# Altium footprint library controller_V1.1.PcbLib: 56 footprints (part 3 of 4)
Each footprint in its own frame and in the unit in brackets; x right, y up, seen from the top. Pads: shape width x height; smd on the part's side, far side on the other; paste and mask are expansions set on the pad; w line width, h text height; cw(c..) or ccw(c..) is an arc to the next point about the centre after c.
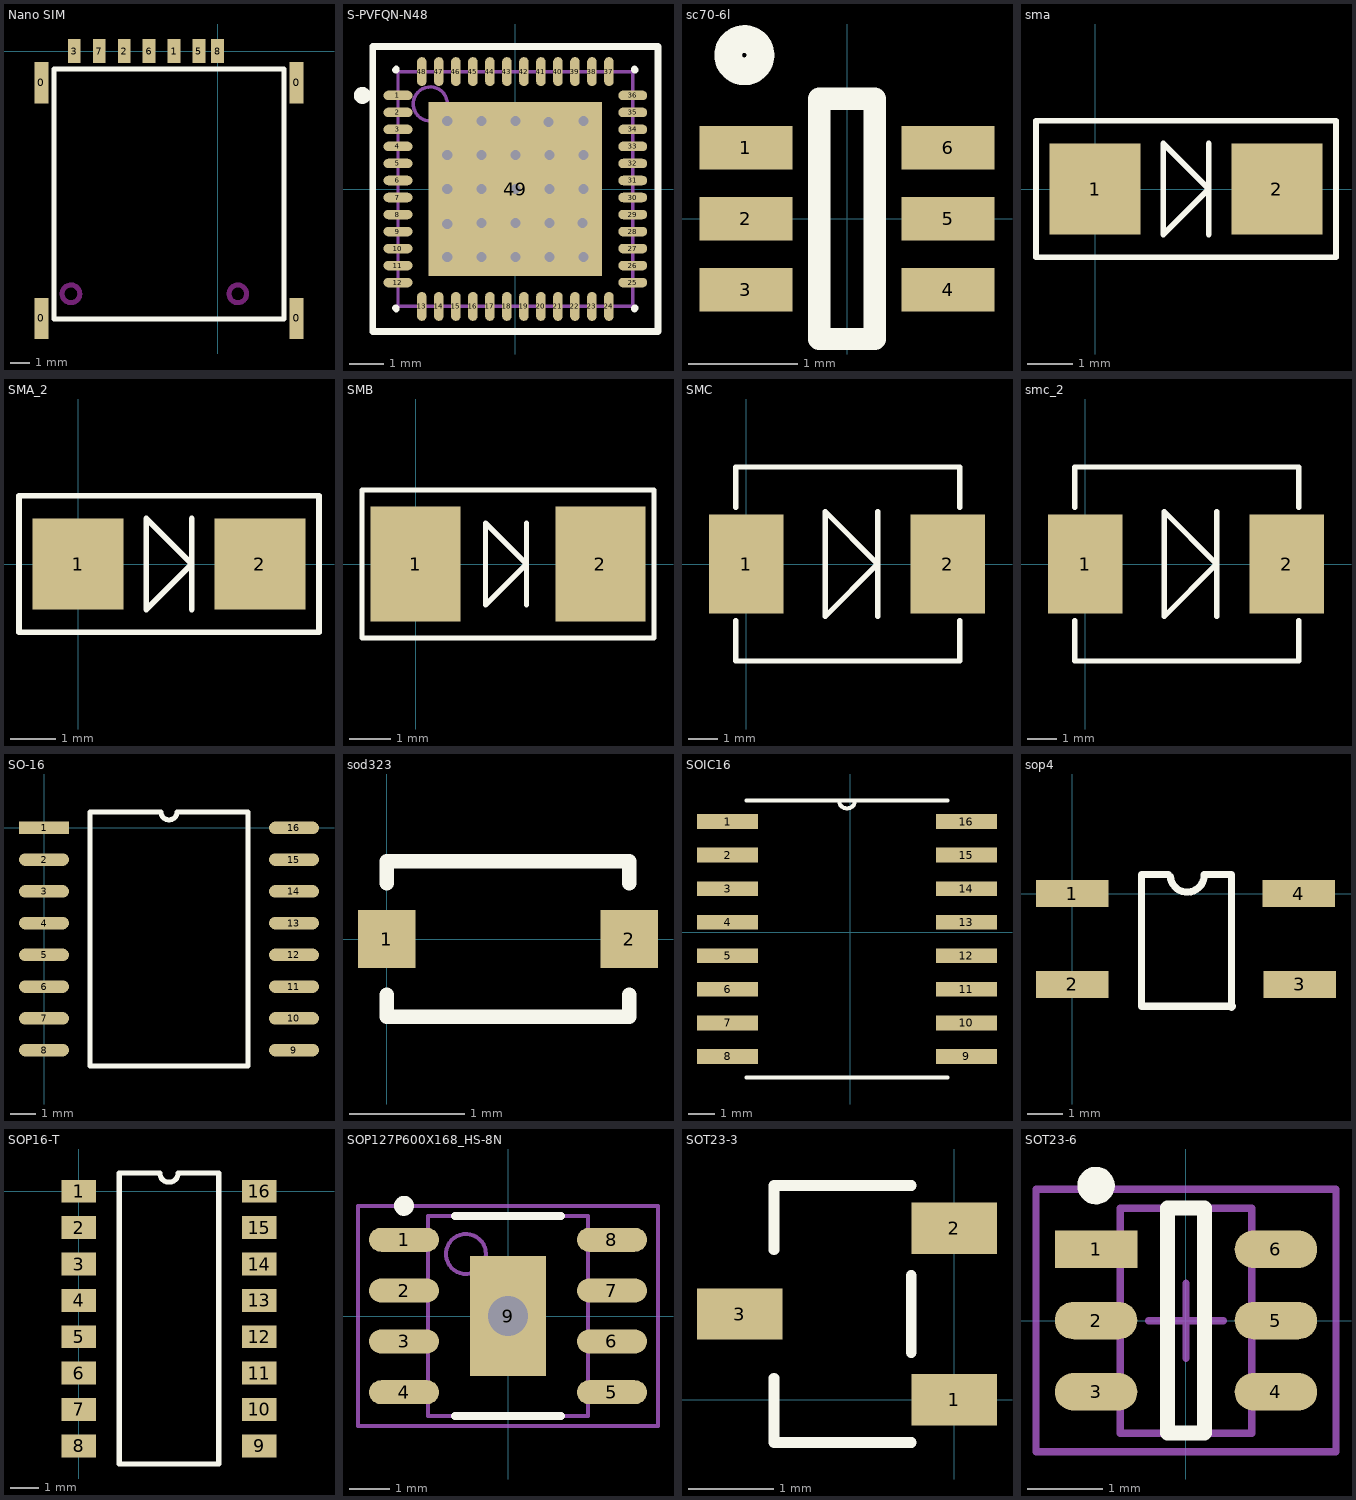
[diagram p2: the footprints below, top view; thin cyan lines are the x and y axes]

## Nano SIM [mm]
pads (11):
  rect 0.7x2.1 smd: 0(-8.97,-13.615) 0(-8.97,-1.615) 0(4.02,-13.615) 0(4.02,-1.615)
  rect 0.65x1.23 smd: 1(-2.22,0) 2(-4.76,0) 3(-7.3,0) 5(-0.95,0) 6(-3.49,0) 7(-6.03,0) 8(0,0)
Top Overlay:
  lines w0.254: -8.331,-13.64 -8.331,-0.914 3.378,-0.914 3.378,-13.64 -8.331,-13.64
Keep-Out Layer:
  circle w0.254: c1.03,-12.365 r0.45
  circle w0.254: c-7.47,-12.365 r0.45

## S-PVFQN-N48 [mm]
height 0.9
pads (49):
  oval 0.85x0.28 smd mask+0.07: 1(-3.45,2.75) 2(-3.45,2.25) 3(-3.45,1.75) 4(-3.45,1.25) 5(-3.45,0.75) 6(-3.45,0.25) 7(-3.45,-0.25) 8(-3.45,-0.75) 9(-3.45,-1.25) 10(-3.45,-1.75) 11(-3.45,-2.25) 12(-3.45,-2.75) 25(3.45,-2.75) 26(3.45,-2.25) 27(3.45,-1.75) 28(3.45,-1.25) 29(3.45,-0.75) 30(3.45,-0.25) 31(3.45,0.25) 32(3.45,0.75) 33(3.45,1.25) 34(3.45,1.75) 35(3.45,2.25) 36(3.45,2.75)
  oval 0.28x0.85 smd mask+0.07: 13(-2.75,-3.45) 14(-2.25,-3.45) 15(-1.75,-3.45) 16(-1.25,-3.45) 17(-0.75,-3.45) 18(-0.25,-3.45) 19(0.25,-3.45) 20(0.75,-3.45) 21(1.25,-3.45) 22(1.75,-3.45) 23(2.25,-3.45) 24(2.75,-3.45) 37(2.75,3.45) 38(2.25,3.45) 39(1.75,3.45) 40(1.25,3.45) 41(0.75,3.45) 42(0.25,3.45) 43(-0.25,3.45) 44(-0.75,3.45) 45(-1.25,3.45) 46(-1.75,3.45) 47(-2.25,3.45) 48(-2.75,3.45)
  rect 5.1x5.1 smd: 49(0,0)
via -2,2 diameter 0.6 hole 0.3
via -1,2 diameter 0.6 hole 0.3
via 0,2 diameter 0.6 hole 0.3
via 0.97,1.97 diameter 0.6 hole 0.3
via 2,2 diameter 0.6 hole 0.3
via -2,1 diameter 0.6 hole 0.3
via -1,1 diameter 0.6 hole 0.3
via 0,1 diameter 0.6 hole 0.3
via 1,1 diameter 0.6 hole 0.3
via 2,1 diameter 0.6 hole 0.3
via -2,0 diameter 0.6 hole 0.3
via -1,0 diameter 0.6 hole 0.3
via 0,0 diameter 0.6 hole 0.3
via 1,0 diameter 0.6 hole 0.3
via 2,0 diameter 0.6 hole 0.3
via -2,-1.03 diameter 0.6 hole 0.3
via -1,-1 diameter 0.6 hole 0.3
via 0,-1 diameter 0.6 hole 0.3
via 1,-1 diameter 0.6 hole 0.3
via 1.97,-1 diameter 0.6 hole 0.3
via -2,-2 diameter 0.6 hole 0.3
via -1,-2 diameter 0.6 hole 0.3
via 0,-2 diameter 0.6 hole 0.3
via 1,-2 diameter 0.6 hole 0.3
via 2,-2 diameter 0.6 hole 0.3
Top Overlay:
  circle w0.25: c-4.5,2.75 r0.125
  lines w0.2: -3.525,-3.5 -3.5,-3.5 -3.5,-3.525 ; -3.525,3.5 -3.5,3.5 -3.5,3.525 ; 3.5,-3.525 3.5,-3.5 3.525,-3.5 ; 3.5,3.525 3.5,3.5 3.525,3.5 ; -4.191,-4.191 4.191,-4.191 4.191,4.191 -4.191,4.191 -4.191,-4.191
Mechanical 13:
  circle w0.1: c-2.5,2.5 r0.5
  lines w0.1: -3.45,-3.45 -3.45,3.45 3.45,3.45 3.45,-3.45 -3.45,-3.45
Mechanical 15:
  lines w0.1: -0.5,0 0.5,0 ; 0,-0.5 0,0.5
3D body: height 0.9, standoff 0.2, extent -3.45,-3.45 3.45,3.45

## sc70-6l [mm]
height 1.1
pads (6):
  rect 0.85x0.4 smd: 1(-0.925,0.65) 2(-0.925,0) 3(-0.925,-0.65) 4(0.925,-0.65) 5(0.925,0) 6(0.925,0.65)
Top Overlay:
  circle w0.254: c-0.94,1.499 r0.148
  lines w0.203: -0.254,-1.1 0.254,-1.1 0.254,1.1 -0.254,1.1 -0.254,-1.1

## sma [mm]
pads (2):
  rect 2x2 smd: 1(0,0) 2(4,0)
Top Overlay:
  lines w0.127: 2.5,-1 2.5,1 ; -1.3,-1.5 5.3,-1.5 5.3,1.5 -1.3,1.5 -1.3,-1.5 ; 1.5,-1 2.5,0 1.5,1 1.5,-1

## SMA_2 [mm]
pads (2):
  rect 2x2 smd: 1(0,0) 2(4,0)
Top Overlay:
  lines w0.127: 2.5,-1 2.5,1 ; -1.3,-1.5 5.3,-1.5 5.3,1.5 -1.3,1.5 -1.3,-1.5 ; 1.5,-1 2.5,0 1.5,1 1.5,-1

## SMB [mm]
pads (2):
  rect 2.2x2.8 smd: 1(0,0) 2(4.5,0)
Top Overlay:
  lines w0.127: 2.7,-1 2.7,1 ; -1.3,-1.8 5.8,-1.8 5.8,1.8 -1.3,1.8 -1.3,-1.8 ; 1.7,-1 2.7,0 1.7,1 1.7,-1

## SMC [mm]
pads (2):
  rect 2.5x3.3 smd: 1(0,0) 2(6.75,0)
Top Overlay:
  lines w0.178: -0.35,-1.9 -0.35,-3.25 7.15,-3.25 7.15,-1.9 ; -0.35,1.9 -0.35,3.25 7.15,3.25 7.15,1.9 ; 4.4,-1.75 4.4,1.75 ; 2.65,-1.75 4.4,0 2.65,1.75 2.65,-1.75

## smc_2 [mm]
pads (2):
  rect 2.5x3.3 smd: 1(0,0) 2(6.75,0)
Top Overlay:
  lines w0.178: -0.35,-1.9 -0.35,-3.25 7.15,-3.25 7.15,-1.9 ; -0.35,1.9 -0.35,3.25 7.15,3.25 7.15,1.9 ; 4.4,-1.75 4.4,1.75 ; 2.65,-1.75 4.4,0 2.65,1.75 2.65,-1.75

## SO-16 [mm]
pads (16):
  rect 2x0.5 smd: 1(0,0)
  oval 2x0.5 smd: 2(0,-1.27) 3(0,-2.54) 4(0,-3.81) 5(0,-5.08) 6(0,-6.35) 7(0,-7.62) 8(0,-8.89) 9(10,-8.89) 10(10,-7.62) 11(10,-6.35) 12(10,-5.08) 13(10,-3.81) 14(10,-2.54) 15(10,-1.27) 16(10,0)
Top Overlay:
  lines w0.2: 1.835,-9.525 8.165,-9.525 8.165,0.635 5.318,0.635 cw(c5,0.635) 4.683,0.635 1.835,0.635 1.835,-9.525

## sod323 [mm]
pads (2):
  rect 0.5x0.5 smd: 1(0,0) 2(2.1,0)
Top Overlay:
  lines w0.127: 0,-0.483 0,-0.675 2.1,-0.675 2.1,-0.483 ; 0,0.483 0,0.675 2.1,0.675 2.1,0.483

## SOIC16 [mil]
pads (16):
  rect 91x22 smd: 1(-183,165) 2(-183,115) 3(-183,65) 4(-183,15) 5(-183,-35) 6(-183,-85) 7(-183,-135) 8(-183,-185) 9(173,-185) 10(173,-135) 11(173,-85) 12(173,-35) 13(173,15) 14(173,65) 15(173,115) 16(173,165)
Top Overlay:
  lines w6: -154.5,-216.5 144.5,-216.5 ; -154.5,196.5 144.5,196.5 ; -17,196.5 ccw(c-5,196.5) 7,196.5

## sop4 [mil]
height 318.9
pads (4):
  rect 80x30 smd: 1(0,0) 2(0,-100) 3(250,-100) 4(249,0)
Top Overlay:
  lines w7.87: 105.59,21 76,21 76,-124 176,-124 ; 107.7,18.89 ccw(c126.34,20.22) 145,21 175,21 175,-125

## SOP16-T [mm]
pads (16):
  rect 1.2x0.8 smd: 1(0,0) 2(0,-1.27) 3(0,-2.54) 4(0,-3.81) 5(0,-5.08) 6(0,-6.35) 7(0,-7.62) 8(0,-8.89) 9(6.3,-8.89) 10(6.3,-7.62) 11(6.3,-6.35) 12(6.3,-5.08) 13(6.3,-3.81) 14(6.3,-2.54) 15(6.3,-1.27) 16(6.3,0)
Top Overlay:
  lines w0.18: 1.415,-9.525 1.415,0.635 2.832,0.635 ccw(c3.15,0.635) 3.467,0.635 4.885,0.635 4.885,-9.525 1.415,-9.525

## SOP127P600X168_HS-8N [mm] "SOP, 8-Leads, Body 5.0x4.0mm (max), Pitch 1.27mm, IPC Medium Density"
height 1.68
pads (9):
  oval 1.75x0.6 smd: 1(-2.6,1.905) 2(-2.6,0.635) 3(-2.6,-0.635) 4(-2.6,-1.905) 5(2.6,-1.905) 6(2.6,-0.635) 7(2.6,0.635) 8(2.6,1.905)
  rect 1.9x3 smd: 9(0,0)
via 0,0 diameter 1.5 hole 1
Top Overlay:
  circle w0.25: c-2.6,2.755 r0.125
  lines w0.2: -1.325,-2.5 1.325,-2.5 ; -1.325,2.5 1.325,2.5
Mechanical 13:
  circle w0.1: c-1.05,1.55 r0.5
  lines w0.1: -2,-2.5 -2,2.5 2,2.5 2,-2.5 -2,-2.5
Mechanical 15:
  lines w0.1: -0.5,0 0.5,0 ; 0,-0.5 0,0.5 ; -3.75,-2.75 -3.75,2.75 3.75,2.75 3.75,-2.75 -3.75,-2.75
3D body: height 1.68, standoff 0.25, extent -2,-2.5 2,2.5

## SOT23-3 [mm]
pads (3):
  rect 1x0.6 smd: 1(0,0) 2(0,2) 3(-2.5,1)
Top Overlay:
  lines w0.127: -2.1,0.25 -2.1,-0.5 -0.5,-0.5 ; -2.1,1.75 -2.1,2.5 -0.5,2.5 ; -0.5,0.55 -0.5,1.45

## SOT23-6 [mm]
pads (6):
  rect 1.1x0.5 smd: 1(-1.2,0.95)
  oval 1.1x0.5 smd: 2(-1.2,0) 3(-1.2,-0.95) 4(1.2,-0.95) 5(1.2,0) 6(1.2,0.95)
Top Overlay:
  circle w0.25: c-1.2,1.8 r0.125
  lines w0.2: -0.25,-1.5 0.25,-1.5 0.25,1.5 -0.25,1.5 -0.25,-1.5
Mechanical 13:
  lines w0.1: -0.875,-1.5 -0.875,1.5 0.875,1.5 0.875,-1.5 -0.875,-1.5
Mechanical 15:
  lines w0.1: -0.5,0 0.5,0 ; 0,-0.5 0,0.5 ; -2,-1.75 -2,1.75 2,1.75 2,-1.75 -2,-1.75
3D body: height 1.45, standoff 0.15, extent -0.875,-1.5 0.875,1.5